# Altium footprint library SMD Miscellaneous Components.PcbLib: 20 footprints (part 2 of 2)
Each footprint in its own frame and in the unit in brackets; x right, y up, seen from the top. Pads: shape width x height; smd on the part's side, far side on the other; paste and mask are expansions set on the pad; w line width, h text height; cw(c..) or ccw(c..) is an arc to the next point about the centre after c.
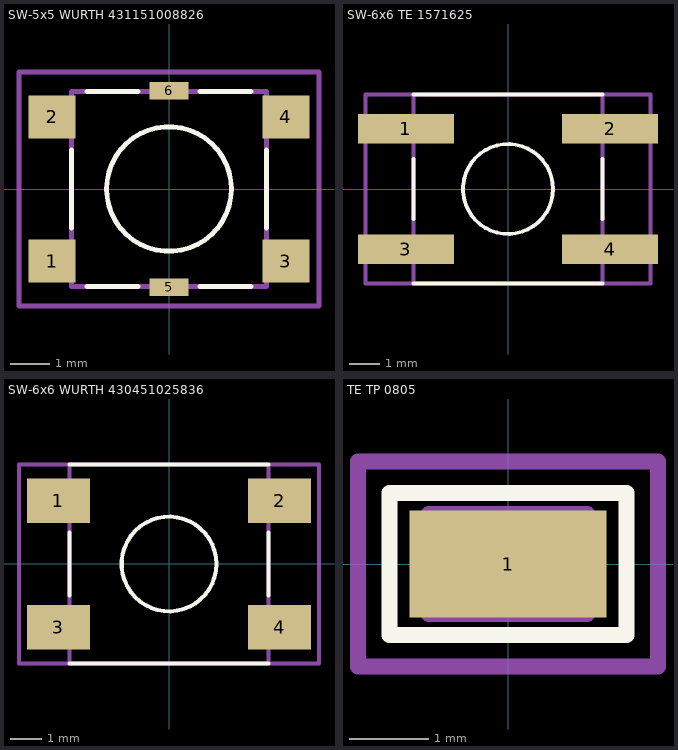
[diagram p1: the footprints below, top view; thin cyan lines are the x and y axes]

## SW-5x5 WURTH 431151008826 [mm] "5*5mm vertical type, SMD, height 0.8mm, no actuator, 260gf, Grounded Terminal, T&R"
height 0.8
pads (6):
  rect 1.2x1.1 smd: 1(-3,-1.85) 2(-3,1.85) 3(3,-1.85) 4(3,1.85)
  rect 1x0.45 smd: 5(0,-2.525) 6(0,2.525)
Top Overlay:
  circle w0.127: c0,0 r1.6
  lines w0.127: -2.5,-1 -2.5,1 ; -2.1,-2.5 -0.8,-2.5 ; -2.1,2.5 -0.8,2.5 ; 0.8,-2.5 2.1,-2.5 ; 0.8,2.5 2.1,2.5 ; 2.5,-1 2.5,1
Mechanical 13:
  lines w0.127: -2.5,-2.5 -2.5,2.5 2.5,2.5 2.5,-2.5 -2.5,-2.5
Mechanical 15:
  lines w0.127: -3.85,-3 -3.85,3 3.85,3 3.85,-3 -3.85,-3
3D body "4311x10088x6.stp": height 0.8, standoff -0.01, extent -3.1,-2.5 3.1,2.5

## SW-6x6 TE 1571625 [mil] "6*6mm vertical type, SMD, height 2.5mm, salmon actuator, 360gf, T&R"
height 98.43
pads (4):
  rect 126x39 smd: 1(-134,79) 2(134,79) 3(-134,-79) 4(134,-79)
Top Overlay:
  circle w5: c0,0 r59.06
  lines w5: -124.02,-124.02 124.02,-124.02 ; -124.02,-39.37 -124.02,39.37 ; -124.02,124.02 51.18,124.02 124.02,124.02 ; 124.02,-39.37 124.02,39.37
Mechanical 13:
  lines w5: -124.02,-124.02 124.02,-124.02 124.02,124.01 -124.02,124.01 -124.02,-124.02
Mechanical 15:
  lines w5: -187.01,-124.02 -187.01,124.01 187.01,124.01 187.01,-124.02 -187.01,-124.02
3D body "TE 1571625.STEP": height 99.69, standoff 1.26, extent -133.85,-122.04 133.87,122.05

## SW-6x6 WURTH 430451025836 [mm] "6*6mm vertical type, SMD, height 2.5mm, salmon actuator, 360gf, T&R"
height 2.5
pads (4):
  rect 2x1.4 smd: 1(-3.5,2) 2(3.5,2) 3(-3.5,-2) 4(3.5,-2)
Top Overlay:
  circle w0.127: c0,0 r1.5
  lines w0.127: -3.15,-3.15 3.15,-3.15 ; -3.15,-1 -3.15,1 ; -3.15,3.15 1.3,3.15 3.15,3.15 ; 3.15,-1 3.15,1
Mechanical 13:
  lines w0.127: -3.15,-3.15 -3.15,3.15 3.15,3.15 3.15,-3.15 -3.15,-3.15
Mechanical 15:
  lines w0.127: -4.75,-3.15 4.75,-3.15 4.75,3.15 -4.75,3.15 -4.75,-3.15
3D body "4304x10258x6.stp": height 2.5, standoff -0.01, extent -4,-3.1 4,3.1

## TE TP 0805 [mm]
height 1.45
pads (1):
  rect 2.5x1.35 smd: 1(0,0)
Top Overlay:
  lines w0.2: -1.5,-0.9 -1.5,0.9 1.5,0.9 1.5,-0.9 -1.5,-0.9
Mechanical 1:
  lines w0.2: -1,-0.637 1,-0.637 1,0.638 -1,0.638 -1,-0.637
Mechanical 15:
  lines w0.2: -0.5,0 0.5,0 ; 0,-0.5 0,0.5 ; -1.9,-1.3 1.9,-1.3 1.9,1.3 -1.9,1.3 -1.9,-1.3
3D body "TE RCT-0C.STEP": height 1.48, standoff 0.03, extent -1,-0.637 1,0.638